# EAGLE library part XFMR_750311385 (library wheat)
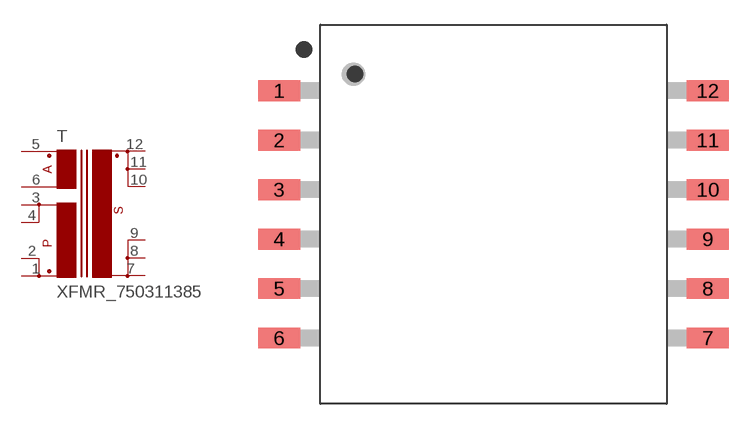
[diagram p212: symbol with the pads of IND_VP5; footprint IND_VP5]

Designator prefix T

## XFMR_750311385  [IND_VP5]
1  P1P  pas
2  P2P  pas
3  P1N  pas
4  P2N  pas
5  AUXP  pas
6  AUXN  pas
7  SN1  pas
8  SN2  pas
9  SN3  pas
10  SP3  pas
11  SP2  pas
12  SP1  pas

## Footprint IND_VP5 (pad centres in mm)
INDUCTOR, VPH5
smd 2.54 x 1.27: 1 -13,7.5; 2 -13,4.5; 3 -13,1.5; 4 -13,-1.5; 5 -13,-4.5; 6 -13,-7.5; 7 13,-7.5; 8 13,-4.5; 9 13,-1.5; 10 13,1.5; 11 13,4.5; 12 13,7.5